# Altium integrated library Atmel SPLD Industry Standard.IntLib: 198 symbols (part 4 of 5)
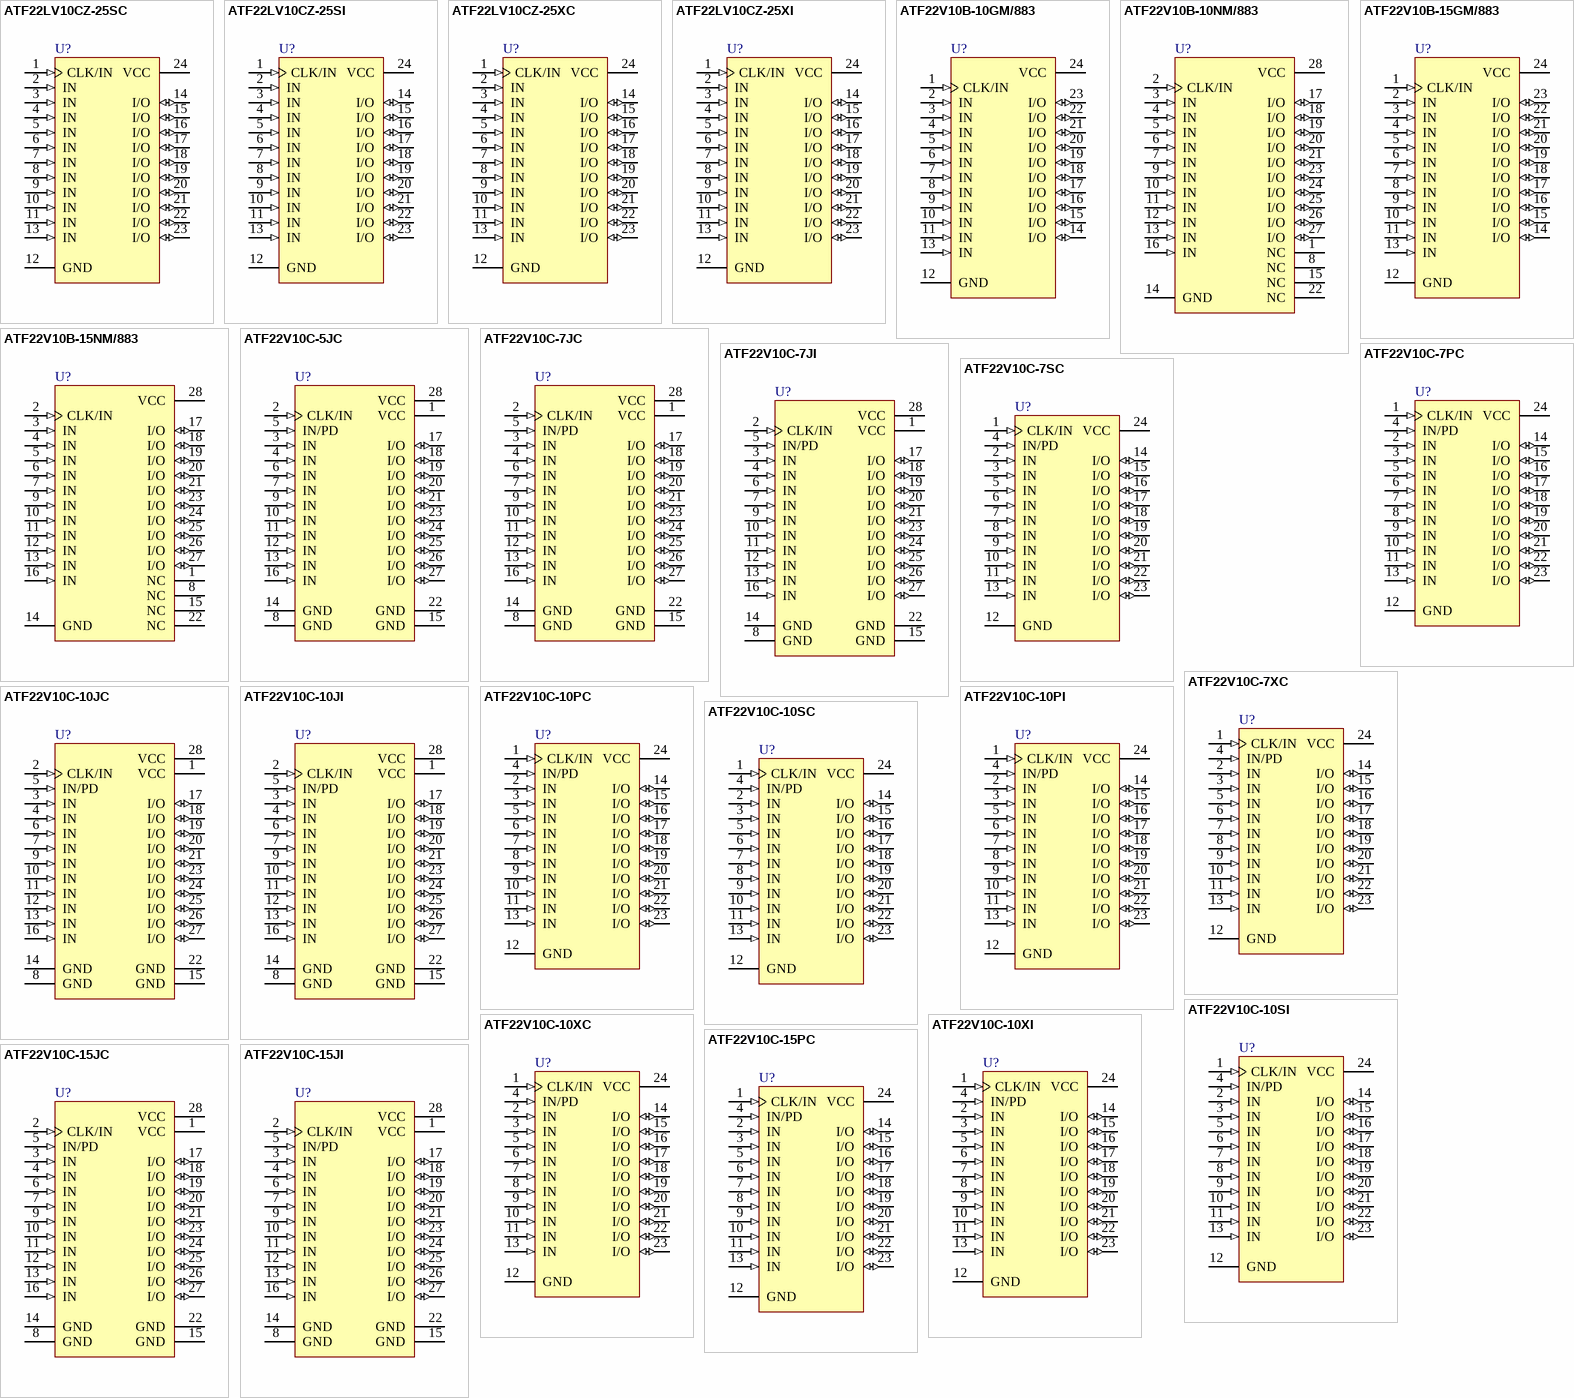
[diagram p10: symbols ATF22LV10CZ-25SC to ATF22V10C-15PC]

## ATF22LV10CZ-25XC
designator U?
ATF22LV10CZ 3.0V to 5.5V Industry Standard SPLD, 24-lead TSSOP, Speed Grade 25, Commercial Grade; DatasheetVersion: Rev. 0779K-04/01; PackageVersion: revA, Apr-2001; PackageReference: 24X; PackageDescription: 24-Pin Thin Small Outline Package 0.65 mm Pitch; ComponentLink1Description: Manufacturer URL; ComponentLink1URL: http://www.atmel.com/; ComponentLink2Description: Datasheet; ComponentLink2URL: http://www.atmel.com/dyn/resources/prod_documents/DOC0778.PDF
footprint 24X_N (TSOP, 24-Leads, Body 7.8x4.4mm, Pitch 0.65mm, IPC Medium Density)
footprint 24X_L (TSOP, 24-Leads, Body 7.8x4.4mm, Pitch 0.65mm, IPC High Density)
footprint 24X_M (TSOP, 24-Leads, Body 7.8x4.4mm, Pitch 0.65mm, IPC Low Density)
pins: 1 CLK/IN (in), 2 IN (in), 3 IN (in), 4 IN (in), 5 IN (in), 6 IN (in), 7 IN (in), 8 IN (in), 9 IN (in), 10 IN (in), 11 IN (in), 12 GND (power), 13 IN (in), 14 I/O (io), 15 I/O (io), 16 I/O (io), 17 I/O (io), 18 I/O (io), 19 I/O (io), 20 I/O (io), 21 I/O (io), 22 I/O (io), 23 I/O (io), 24 VCC (power)

## ATF22LV10CZ-25XI
designator U?
ATF22LV10CZ 3.0V to 5.5V Industry Standard SPLD, 24-lead TSSOP, Speed Grade 25, Industrial Grade; DatasheetVersion: Rev. 0779K-04/01; PackageVersion: revA, Apr-2001; PackageReference: 24X; PackageDescription: 24-Pin Thin Small Outline Package 0.65 mm Pitch; ComponentLink1Description: Manufacturer URL; ComponentLink1URL: http://www.atmel.com/; ComponentLink2Description: Datasheet; ComponentLink2URL: http://www.atmel.com/dyn/resources/prod_documents/DOC0778.PDF
footprint 24X_N (TSOP, 24-Leads, Body 7.8x4.4mm, Pitch 0.65mm, IPC Medium Density)
footprint 24X_L (TSOP, 24-Leads, Body 7.8x4.4mm, Pitch 0.65mm, IPC High Density)
footprint 24X_M (TSOP, 24-Leads, Body 7.8x4.4mm, Pitch 0.65mm, IPC Low Density)
pins: 1 CLK/IN (in), 2 IN (in), 3 IN (in), 4 IN (in), 5 IN (in), 6 IN (in), 7 IN (in), 8 IN (in), 9 IN (in), 10 IN (in), 11 IN (in), 12 GND (power), 13 IN (in), 14 I/O (io), 15 I/O (io), 16 I/O (io), 17 I/O (io), 18 I/O (io), 19 I/O (io), 20 I/O (io), 21 I/O (io), 22 I/O (io), 23 I/O (io), 24 VCC (power)

## ATF22V10B-10GM/883
designator U?
ATF22V10B 5.0V Industry Standard SPLD, 24-lead Non-windowed CerDIP, Speed Grade 10, Military/883C Grade; Note: Pins 1, 8, 15 and 22 are not internally connected.; DatasheetVersion: Rev. 0250L-PLD-06/03; PackageVersion: 1993; PackageReference: 24D3; PackageDescription: DIP, 24-Pin, Skinny Dual In-line Package, 300mil Wide, Pitch 2.54 mm; Code_JEDEC: MS-001-AF; ComponentLink1Description: Manufacturer URL; ComponentLink1URL: http://www.atmel.com/; ComponentLink2Description: Datasheet; ComponentLink2URL: http://www.atmel.com/dyn/resources/prod_documents/doc0250.pdf
footprint 24D3 (DIP, 24-Leads, Row Spacing 7.62mm, Pitch 2.54mm, Body 32x7.56mm)
pins: 1 CLK/IN (in), 2 IN (in), 3 IN (in), 4 IN (in), 5 IN (in), 6 IN (in), 7 IN (in), 8 IN (in), 9 IN (in), 10 IN (in), 11 IN (in), 12 GND (power), 13 IN (in), 14 I/O (io), 15 I/O (io), 16 I/O (io), 17 I/O (io), 18 I/O (io), 19 I/O (io), 20 I/O (io), 21 I/O (io), 22 I/O (io), 23 I/O (io), 24 VCC (power)

## ATF22V10B-10NM/883
designator U?
ATF22V10B 5.0V Industry Standard SPLD, 28-pad Non-windowed LCC, Speed Grade 10, Military/883C Grade; Note: Pins 1, 8, 15 and 22 are not internally connected.; DatasheetVersion: Rev. 0250L-PLD-06/03; PackageVersion: 1/12/1999; PackageReference: 28L; PackageDescription: 28-Pin Ceramic Leadless Chip Carrier 1.27 mm Pitch; ComponentLink1Description: Manufacturer URL; ComponentLink1URL: http://www.atmel.com/; ComponentLink2Description: Datasheet; ComponentLink2URL: http://www.atmel.com/dyn/resources/prod_documents/doc0250.pdf
footprint 28L_N (Leadless Chip Carrier, 28-Leads, Body 11.4x11.4mm, Pitch 1.27mm, IPC Medium Density)
footprint 28L_L (Leadless Chip Carrier, 28-Leads, Body 11.4x11.4mm, Pitch 1.27mm, IPC High Density)
footprint 28L_M (Leadless Chip Carrier, 28-Leads, Body 11.4x11.4mm, Pitch 1.27mm, IPC Low Density)
pins: 1 NC, 2 CLK/IN (in), 3 IN (in), 4 IN (in), 5 IN (in), 6 IN (in), 7 IN (in), 8 NC, 9 IN (in), 10 IN (in), 11 IN (in), 12 IN (in), 13 IN (in), 14 GND (power), 15 NC, 16 IN (in), 17 I/O (io), 18 I/O (io), 19 I/O (io), 20 I/O (io), 21 I/O (io), 22 NC, 23 I/O (io), 24 I/O (io), 25 I/O (io), 26 I/O (io), 27 I/O (io), 28 VCC (power)

## ATF22V10B-15GM/883
designator U?
ATF22V10B 5.0V Industry Standard SPLD, 24-lead Non-windowed CerDIP, Speed Grade 15, Military/883C Grade; Note: Pins 1, 8, 15 and 22 are not internally connected.; DatasheetVersion: Rev. 0250L-PLD-06/03; PackageVersion: 1993; PackageReference: 24D3; PackageDescription: DIP, 24-Pin, Skinny Dual In-line Package, 300mil Wide, Pitch 2.54 mm; Code_JEDEC: MS-001-AF; ComponentLink1Description: Manufacturer URL; ComponentLink1URL: http://www.atmel.com/; ComponentLink2Description: Datasheet; ComponentLink2URL: http://www.atmel.com/dyn/resources/prod_documents/doc0250.pdf
footprint 24D3 (DIP, 24-Leads, Row Spacing 7.62mm, Pitch 2.54mm, Body 32x7.56mm)
pins: 1 CLK/IN (in), 2 IN (in), 3 IN (in), 4 IN (in), 5 IN (in), 6 IN (in), 7 IN (in), 8 IN (in), 9 IN (in), 10 IN (in), 11 IN (in), 12 GND (power), 13 IN (in), 14 I/O (io), 15 I/O (io), 16 I/O (io), 17 I/O (io), 18 I/O (io), 19 I/O (io), 20 I/O (io), 21 I/O (io), 22 I/O (io), 23 I/O (io), 24 VCC (power)

## ATF22V10B-15NM/883
designator U?
ATF22V10B 5.0V Industry Standard SPLD, 28-pad Non-windowed LCC, Speed Grade 15, Military/883C Grade; Note: Pins 1, 8, 15 and 22 are not internally connected.; DatasheetVersion: Rev. 0250L-PLD-06/03; PackageVersion: 1/12/1999; PackageReference: 28L; PackageDescription: 28-Pin Ceramic Leadless Chip Carrier 1.27 mm Pitch; ComponentLink1Description: Manufacturer URL; ComponentLink1URL: http://www.atmel.com/; ComponentLink2Description: Datasheet; ComponentLink2URL: http://www.atmel.com/dyn/resources/prod_documents/doc0250.pdf
footprint 28L_N (Leadless Chip Carrier, 28-Leads, Body 11.4x11.4mm, Pitch 1.27mm, IPC Medium Density)
footprint 28L_L (Leadless Chip Carrier, 28-Leads, Body 11.4x11.4mm, Pitch 1.27mm, IPC High Density)
footprint 28L_M (Leadless Chip Carrier, 28-Leads, Body 11.4x11.4mm, Pitch 1.27mm, IPC Low Density)
pins: 1 NC, 2 CLK/IN (in), 3 IN (in), 4 IN (in), 5 IN (in), 6 IN (in), 7 IN (in), 8 NC, 9 IN (in), 10 IN (in), 11 IN (in), 12 IN (in), 13 IN (in), 14 GND (power), 15 NC, 16 IN (in), 17 I/O (io), 18 I/O (io), 19 I/O (io), 20 I/O (io), 21 I/O (io), 22 NC, 23 I/O (io), 24 I/O (io), 25 I/O (io), 26 I/O (io), 27 I/O (io), 28 VCC (power)

## ATF22V10C-5JC
designator U?
ATF22V10C 5.0V Industry Standard SPLD, 28-lead PLCC, Speed Grade 5, Commercial Grade; DatasheetVersion: Rev. 0735P-PLD-01/02; PackageVersion: 1993; PackageReference: 28J; PackageDescription: 28-Pin Leaded Chip Carrier 1.27 mm Pitch; Code_JEDEC: MS-018-AB; Code_IPC: PLCC-28; ComponentLink1Description: Manufacturer URL; ComponentLink1URL: http://www.atmel.com/; ComponentLink2Description: Datasheet; ComponentLink2URL: http://www.atmel.com/dyn/resources/prod_documents/DOC0735.PDF
footprint 28J_N (Leaded Chip Carrier, 28-Leads, Body 11.5x11.5mm, Pitch 1.27mm, IPC Medium Density)
footprint 28J_L (Leaded Chip Carrier, 28-Leads, Body 11.5x11.5mm, Pitch 1.27mm, IPC High Density)
footprint 28J_M (Leaded Chip Carrier, 28-Leads, Body 11.5x11.5mm, Pitch 1.27mm, IPC Low Density)
pins: 1 VCC (power), 2 CLK/IN (in), 3 IN (in), 4 IN (in), 5 IN/PD (in), 6 IN (in), 7 IN (in), 8 GND (power), 9 IN (in), 10 IN (in), 11 IN (in), 12 IN (in), 13 IN (in), 14 GND (power), 15 GND (power), 16 IN (in), 17 I/O (io), 18 I/O (io), 19 I/O (io), 20 I/O (io), 21 I/O (io), 22 GND (power), 23 I/O (io), 24 I/O (io), 25 I/O (io), 26 I/O (io), 27 I/O (io), 28 VCC (power)

## ATF22V10C-7JC
designator U?
ATF22V10C 5.0V Industry Standard SPLD, 28-lead PLCC, Speed Grade 7.5, Commercial Grade; Note: Pins 1, 8, 15 and 22 can be left unconnected.; Note: For superior performance, connect VCC to pin 1 and GND to 8, 15, and 22.; DatasheetVersion: Rev. 0735P-PLD-01/02; PackageVersion: 1993; PackageReference: 28J; PackageDescription: 28-Pin Leaded Chip Carrier 1.27 mm Pitch; Code_JEDEC: MS-018-AB; Code_IPC: PLCC-28; ComponentLink1Description: Manufacturer URL; ComponentLink1URL: http://www.atmel.com/; ComponentLink2Description: Datasheet; ComponentLink2URL: http://www.atmel.com/dyn/resources/prod_documents/DOC0735.PDF
footprint 28J_N (Leaded Chip Carrier, 28-Leads, Body 11.5x11.5mm, Pitch 1.27mm, IPC Medium Density)
footprint 28J_L (Leaded Chip Carrier, 28-Leads, Body 11.5x11.5mm, Pitch 1.27mm, IPC High Density)
footprint 28J_M (Leaded Chip Carrier, 28-Leads, Body 11.5x11.5mm, Pitch 1.27mm, IPC Low Density)
pins: 1 VCC (power), 2 CLK/IN (in), 3 IN (in), 4 IN (in), 5 IN/PD (in), 6 IN (in), 7 IN (in), 8 GND (power), 9 IN (in), 10 IN (in), 11 IN (in), 12 IN (in), 13 IN (in), 14 GND (power), 15 GND (power), 16 IN (in), 17 I/O (io), 18 I/O (io), 19 I/O (io), 20 I/O (io), 21 I/O (io), 22 GND (power), 23 I/O (io), 24 I/O (io), 25 I/O (io), 26 I/O (io), 27 I/O (io), 28 VCC (power)

## ATF22V10C-7JI
designator U?
ATF22V10C 5.0V Industry Standard SPLD, 28-lead PLCC, Speed Grade 7.5, Industrial Grade; Note: Pins 1, 8, 15 and 22 can be left unconnected.; Note: For superior performance, connect VCC to pin 1 and GND to 8, 15, and 22.; DatasheetVersion: Rev. 0735P-PLD-01/02; PackageVersion: 1993; PackageReference: 28J; PackageDescription: 28-Pin Leaded Chip Carrier 1.27 mm Pitch; Code_JEDEC: MS-018-AB; Code_IPC: PLCC-28; ComponentLink1Description: Manufacturer URL; ComponentLink1URL: http://www.atmel.com/; ComponentLink2Description: Datasheet; ComponentLink2URL: http://www.atmel.com/dyn/resources/prod_documents/DOC0735.PDF
footprint 28J_N (Leaded Chip Carrier, 28-Leads, Body 11.5x11.5mm, Pitch 1.27mm, IPC Medium Density)
footprint 28J_L (Leaded Chip Carrier, 28-Leads, Body 11.5x11.5mm, Pitch 1.27mm, IPC High Density)
footprint 28J_M (Leaded Chip Carrier, 28-Leads, Body 11.5x11.5mm, Pitch 1.27mm, IPC Low Density)
pins: 1 VCC (power), 2 CLK/IN (in), 3 IN (in), 4 IN (in), 5 IN/PD (in), 6 IN (in), 7 IN (in), 8 GND (power), 9 IN (in), 10 IN (in), 11 IN (in), 12 IN (in), 13 IN (in), 14 GND (power), 15 GND (power), 16 IN (in), 17 I/O (io), 18 I/O (io), 19 I/O (io), 20 I/O (io), 21 I/O (io), 22 GND (power), 23 I/O (io), 24 I/O (io), 25 I/O (io), 26 I/O (io), 27 I/O (io), 28 VCC (power)

## ATF22V10C-7PC
designator U?
ATF22V10C 5.0V Industry Standard SPLD, 24-lead PDIP, Speed Grade 7.5, Commercial Grade; DatasheetVersion: Rev. 0735P-PLD-01/02; PackageVersion: 1993; PackageReference: 24P3; PackageDescription: DIP, 24-Pin, Skinny Dual In-line Package, 300mil Wide, Pitch 2.54 mm; Code_JEDEC: MS-001-AF; ComponentLink1Description: Manufacturer URL; ComponentLink1URL: http://www.atmel.com/; ComponentLink2Description: Datasheet; ComponentLink2URL: http://www.atmel.com/dyn/resources/prod_documents/DOC0735.PDF
footprint 24P3 (DIP, 24-Leads, Row Spacing 7.62mm, Pitch 2.54mm, Body 32x6.56mm)
pins: 1 CLK/IN (in), 2 IN (in), 3 IN (in), 4 IN/PD (in), 5 IN (in), 6 IN (in), 7 IN (in), 8 IN (in), 9 IN (in), 10 IN (in), 11 IN (in), 12 GND (power), 13 IN (in), 14 I/O (io), 15 I/O (io), 16 I/O (io), 17 I/O (io), 18 I/O (io), 19 I/O (io), 20 I/O (io), 21 I/O (io), 22 I/O (io), 23 I/O (io), 24 VCC (power)

## ATF22V10C-7SC
designator U?
ATF22V10C 5.0V Industry Standard SPLD, 24-lead SOIC, Speed Grade 7.5, Commercial Grade; DatasheetVersion: Rev. 0735P-PLD-01/02; PackageVersion: 1993; PackageReference: 24S; PackageDescription: 24-Pin Small Outline Integrated Circuit 1.27 mm Pitch; ComponentLink1Description: Manufacturer URL; ComponentLink1URL: http://www.atmel.com/; ComponentLink2Description: Datasheet; ComponentLink2URL: http://www.atmel.com/dyn/resources/prod_documents/DOC0735.PDF
footprint 24S_N (SOIC, 24-Leads, Body 15.4x7.5mm, Pitch 1.27mm, IPC Medium Density)
footprint 24S_L (SOIC, 24-Leads, Body 15.4x7.5mm, Pitch 1.27mm, IPC High Density)
footprint 24S_M (SOIC, 24-Leads, Body 15.4x7.5mm, Pitch 1.27mm, IPC Low Density)
pins: 1 CLK/IN (in), 2 IN (in), 3 IN (in), 4 IN/PD (in), 5 IN (in), 6 IN (in), 7 IN (in), 8 IN (in), 9 IN (in), 10 IN (in), 11 IN (in), 12 GND (power), 13 IN (in), 14 I/O (io), 15 I/O (io), 16 I/O (io), 17 I/O (io), 18 I/O (io), 19 I/O (io), 20 I/O (io), 21 I/O (io), 22 I/O (io), 23 I/O (io), 24 VCC (power)

## ATF22V10C-7XC
designator U?
ATF22V10C 5.0V Industry Standard SPLD, 24-lead TSSOP, Speed Grade 7.5, Commercial Grade; DatasheetVersion: Rev. 0735P-PLD-01/02; PackageVersion: revA, Apr-2001; PackageReference: 24X; PackageDescription: 24-Pin Thin Small Outline Package 0.65 mm Pitch; ComponentLink1Description: Manufacturer URL; ComponentLink1URL: http://www.atmel.com/; ComponentLink2Description: Datasheet; ComponentLink2URL: http://www.atmel.com/dyn/resources/prod_documents/DOC0735.PDF
footprint 24X_N (TSOP, 24-Leads, Body 7.8x4.4mm, Pitch 0.65mm, IPC Medium Density)
footprint 24X_L (TSOP, 24-Leads, Body 7.8x4.4mm, Pitch 0.65mm, IPC High Density)
footprint 24X_M (TSOP, 24-Leads, Body 7.8x4.4mm, Pitch 0.65mm, IPC Low Density)
pins: 1 CLK/IN (in), 2 IN (in), 3 IN (in), 4 IN/PD (in), 5 IN (in), 6 IN (in), 7 IN (in), 8 IN (in), 9 IN (in), 10 IN (in), 11 IN (in), 12 GND (power), 13 IN (in), 14 I/O (io), 15 I/O (io), 16 I/O (io), 17 I/O (io), 18 I/O (io), 19 I/O (io), 20 I/O (io), 21 I/O (io), 22 I/O (io), 23 I/O (io), 24 VCC (power)

## ATF22V10C-10JC
designator U?
ATF22V10C 5.0V Industry Standard SPLD, 28-lead PLCC, Speed Grade 10, Commercial Grade; Note: Pins 1, 8, 15 and 22 can be left unconnected.; Note: For superior performance, connect VCC to pin 1 and GND to 8, 15, and 22.; DatasheetVersion: Rev. 0735P-PLD-01/02; PackageVersion: 1993; PackageReference: 28J; PackageDescription: 28-Pin Leaded Chip Carrier 1.27 mm Pitch; Code_JEDEC: MS-018-AB; Code_IPC: PLCC-28; ComponentLink1Description: Manufacturer URL; ComponentLink1URL: http://www.atmel.com/; ComponentLink2Description: Datasheet; ComponentLink2URL: http://www.atmel.com/dyn/resources/prod_documents/DOC0735.PDF
footprint 28J_N (Leaded Chip Carrier, 28-Leads, Body 11.5x11.5mm, Pitch 1.27mm, IPC Medium Density)
footprint 28J_L (Leaded Chip Carrier, 28-Leads, Body 11.5x11.5mm, Pitch 1.27mm, IPC High Density)
footprint 28J_M (Leaded Chip Carrier, 28-Leads, Body 11.5x11.5mm, Pitch 1.27mm, IPC Low Density)
pins: 1 VCC (power), 2 CLK/IN (in), 3 IN (in), 4 IN (in), 5 IN/PD (in), 6 IN (in), 7 IN (in), 8 GND (power), 9 IN (in), 10 IN (in), 11 IN (in), 12 IN (in), 13 IN (in), 14 GND (power), 15 GND (power), 16 IN (in), 17 I/O (io), 18 I/O (io), 19 I/O (io), 20 I/O (io), 21 I/O (io), 22 GND (power), 23 I/O (io), 24 I/O (io), 25 I/O (io), 26 I/O (io), 27 I/O (io), 28 VCC (power)

## ATF22V10C-10JI
designator U?
ATF22V10C 5.0V Industry Standard SPLD, 28-lead PLCC, Speed Grade 10, Industrial Grade; Note: Pins 1, 8, 15 and 22 can be left unconnected.; Note: For superior performance, connect VCC to pin 1 and GND to 8, 15, and 22.; DatasheetVersion: Rev. 0735P-PLD-01/02; PackageVersion: 1993; PackageReference: 28J; PackageDescription: 28-Pin Leaded Chip Carrier 1.27 mm Pitch; Code_JEDEC: MS-018-AB; Code_IPC: PLCC-28; ComponentLink1Description: Manufacturer URL; ComponentLink1URL: http://www.atmel.com/; ComponentLink2Description: Datasheet; ComponentLink2URL: http://www.atmel.com/dyn/resources/prod_documents/DOC0735.PDF
footprint 28J_N (Leaded Chip Carrier, 28-Leads, Body 11.5x11.5mm, Pitch 1.27mm, IPC Medium Density)
footprint 28J_L (Leaded Chip Carrier, 28-Leads, Body 11.5x11.5mm, Pitch 1.27mm, IPC High Density)
footprint 28J_M (Leaded Chip Carrier, 28-Leads, Body 11.5x11.5mm, Pitch 1.27mm, IPC Low Density)
pins: 1 VCC (power), 2 CLK/IN (in), 3 IN (in), 4 IN (in), 5 IN/PD (in), 6 IN (in), 7 IN (in), 8 GND (power), 9 IN (in), 10 IN (in), 11 IN (in), 12 IN (in), 13 IN (in), 14 GND (power), 15 GND (power), 16 IN (in), 17 I/O (io), 18 I/O (io), 19 I/O (io), 20 I/O (io), 21 I/O (io), 22 GND (power), 23 I/O (io), 24 I/O (io), 25 I/O (io), 26 I/O (io), 27 I/O (io), 28 VCC (power)

## ATF22V10C-10PC
designator U?
ATF22V10C 5.0V Industry Standard SPLD, 24-lead PDIP, Speed Grade 10, Commercial Grade; DatasheetVersion: Rev. 0735P-PLD-01/02; PackageVersion: 1993; PackageReference: 24P3; PackageDescription: DIP, 24-Pin, Skinny Dual In-line Package, 300mil Wide, Pitch 2.54 mm; Code_JEDEC: MS-001-AF; ComponentLink1Description: Manufacturer URL; ComponentLink1URL: http://www.atmel.com/; ComponentLink2Description: Datasheet; ComponentLink2URL: http://www.atmel.com/dyn/resources/prod_documents/DOC0735.PDF
footprint 24P3 (DIP, 24-Leads, Row Spacing 7.62mm, Pitch 2.54mm, Body 32x6.56mm)
pins: 1 CLK/IN (in), 2 IN (in), 3 IN (in), 4 IN/PD (in), 5 IN (in), 6 IN (in), 7 IN (in), 8 IN (in), 9 IN (in), 10 IN (in), 11 IN (in), 12 GND (power), 13 IN (in), 14 I/O (io), 15 I/O (io), 16 I/O (io), 17 I/O (io), 18 I/O (io), 19 I/O (io), 20 I/O (io), 21 I/O (io), 22 I/O (io), 23 I/O (io), 24 VCC (power)

## ATF22V10C-10PI
designator U?
ATF22V10C 5.0V Industry Standard SPLD, 24-lead PDIP, Speed Grade 10, Industrial Grade; DatasheetVersion: Rev. 0735P-PLD-01/02; PackageVersion: 1993; PackageReference: 24P3; PackageDescription: DIP, 24-Pin, Skinny Dual In-line Package, 300mil Wide, Pitch 2.54 mm; Code_JEDEC: MS-001-AF; ComponentLink1Description: Manufacturer URL; ComponentLink1URL: http://www.atmel.com/; ComponentLink2Description: Datasheet; ComponentLink2URL: http://www.atmel.com/dyn/resources/prod_documents/DOC0735.PDF
footprint 24P3 (DIP, 24-Leads, Row Spacing 7.62mm, Pitch 2.54mm, Body 32x6.56mm)
pins: 1 CLK/IN (in), 2 IN (in), 3 IN (in), 4 IN/PD (in), 5 IN (in), 6 IN (in), 7 IN (in), 8 IN (in), 9 IN (in), 10 IN (in), 11 IN (in), 12 GND (power), 13 IN (in), 14 I/O (io), 15 I/O (io), 16 I/O (io), 17 I/O (io), 18 I/O (io), 19 I/O (io), 20 I/O (io), 21 I/O (io), 22 I/O (io), 23 I/O (io), 24 VCC (power)

## ATF22V10C-10SC
designator U?
ATF22V10C 5.0V Industry Standard SPLD, 24-lead SOIC, Speed Grade 10, Commercial Grade; DatasheetVersion: Rev. 0735P-PLD-01/02; PackageVersion: 1993; PackageReference: 24S; PackageDescription: 24-Pin Small Outline Integrated Circuit 1.27 mm Pitch; ComponentLink1Description: Manufacturer URL; ComponentLink1URL: http://www.atmel.com/; ComponentLink2Description: Datasheet; ComponentLink2URL: http://www.atmel.com/dyn/resources/prod_documents/DOC0735.PDF
footprint 24S_N (SOIC, 24-Leads, Body 15.4x7.5mm, Pitch 1.27mm, IPC Medium Density)
footprint 24S_L (SOIC, 24-Leads, Body 15.4x7.5mm, Pitch 1.27mm, IPC High Density)
footprint 24S_M (SOIC, 24-Leads, Body 15.4x7.5mm, Pitch 1.27mm, IPC Low Density)
pins: 1 CLK/IN (in), 2 IN (in), 3 IN (in), 4 IN/PD (in), 5 IN (in), 6 IN (in), 7 IN (in), 8 IN (in), 9 IN (in), 10 IN (in), 11 IN (in), 12 GND (power), 13 IN (in), 14 I/O (io), 15 I/O (io), 16 I/O (io), 17 I/O (io), 18 I/O (io), 19 I/O (io), 20 I/O (io), 21 I/O (io), 22 I/O (io), 23 I/O (io), 24 VCC (power)

## ATF22V10C-10SI
designator U?
ATF22V10C 5.0V Industry Standard SPLD, 24-lead SOIC, Speed Grade 10, Industrial Grade; DatasheetVersion: Rev. 0735P-PLD-01/02; PackageVersion: 1993; PackageReference: 24S; PackageDescription: 24-Pin Small Outline Integrated Circuit 1.27 mm Pitch; ComponentLink1Description: Manufacturer URL; ComponentLink1URL: http://www.atmel.com/; ComponentLink2Description: Datasheet; ComponentLink2URL: http://www.atmel.com/dyn/resources/prod_documents/DOC0735.PDF
footprint 24S_N (SOIC, 24-Leads, Body 15.4x7.5mm, Pitch 1.27mm, IPC Medium Density)
footprint 24S_L (SOIC, 24-Leads, Body 15.4x7.5mm, Pitch 1.27mm, IPC High Density)
footprint 24S_M (SOIC, 24-Leads, Body 15.4x7.5mm, Pitch 1.27mm, IPC Low Density)
pins: 1 CLK/IN (in), 2 IN (in), 3 IN (in), 4 IN/PD (in), 5 IN (in), 6 IN (in), 7 IN (in), 8 IN (in), 9 IN (in), 10 IN (in), 11 IN (in), 12 GND (power), 13 IN (in), 14 I/O (io), 15 I/O (io), 16 I/O (io), 17 I/O (io), 18 I/O (io), 19 I/O (io), 20 I/O (io), 21 I/O (io), 22 I/O (io), 23 I/O (io), 24 VCC (power)

## ATF22V10C-10XC
designator U?
ATF22V10C 5.0V Industry Standard SPLD, 24-lead TSSOP, Speed Grade 10, Commercial Grade; DatasheetVersion: Rev. 0735P-PLD-01/02; PackageVersion: revA, Apr-2001; PackageReference: 24X; PackageDescription: 24-Pin Thin Small Outline Package 0.65 mm Pitch; ComponentLink1Description: Manufacturer URL; ComponentLink1URL: http://www.atmel.com/; ComponentLink2Description: Datasheet; ComponentLink2URL: http://www.atmel.com/dyn/resources/prod_documents/DOC0735.PDF
footprint 24X_N (TSOP, 24-Leads, Body 7.8x4.4mm, Pitch 0.65mm, IPC Medium Density)
footprint 24X_L (TSOP, 24-Leads, Body 7.8x4.4mm, Pitch 0.65mm, IPC High Density)
footprint 24X_M (TSOP, 24-Leads, Body 7.8x4.4mm, Pitch 0.65mm, IPC Low Density)
pins: 1 CLK/IN (in), 2 IN (in), 3 IN (in), 4 IN/PD (in), 5 IN (in), 6 IN (in), 7 IN (in), 8 IN (in), 9 IN (in), 10 IN (in), 11 IN (in), 12 GND (power), 13 IN (in), 14 I/O (io), 15 I/O (io), 16 I/O (io), 17 I/O (io), 18 I/O (io), 19 I/O (io), 20 I/O (io), 21 I/O (io), 22 I/O (io), 23 I/O (io), 24 VCC (power)

## ATF22V10C-10XI
designator U?
ATF22V10C 5.0V Industry Standard SPLD, 24-lead TSSOP, Speed Grade 10, Industrial Grade; DatasheetVersion: Rev. 0735P-PLD-01/02; PackageVersion: revA, Apr-2001; PackageReference: 24X; PackageDescription: 24-Pin Thin Small Outline Package 0.65 mm Pitch; ComponentLink1Description: Manufacturer URL; ComponentLink1URL: http://www.atmel.com/; ComponentLink2Description: Datasheet; ComponentLink2URL: http://www.atmel.com/dyn/resources/prod_documents/DOC0735.PDF
footprint 24X_N (TSOP, 24-Leads, Body 7.8x4.4mm, Pitch 0.65mm, IPC Medium Density)
footprint 24X_L (TSOP, 24-Leads, Body 7.8x4.4mm, Pitch 0.65mm, IPC High Density)
footprint 24X_M (TSOP, 24-Leads, Body 7.8x4.4mm, Pitch 0.65mm, IPC Low Density)
pins: 1 CLK/IN (in), 2 IN (in), 3 IN (in), 4 IN/PD (in), 5 IN (in), 6 IN (in), 7 IN (in), 8 IN (in), 9 IN (in), 10 IN (in), 11 IN (in), 12 GND (power), 13 IN (in), 14 I/O (io), 15 I/O (io), 16 I/O (io), 17 I/O (io), 18 I/O (io), 19 I/O (io), 20 I/O (io), 21 I/O (io), 22 I/O (io), 23 I/O (io), 24 VCC (power)

## ATF22V10C-15JC
designator U?
ATF22V10C 5.0V Industry Standard SPLD, 28-lead PLCC, Speed Grade 15, Commercial Grade; Note: Pins 1, 8, 15 and 22 can be left unconnected.; Note: For superior performance, connect VCC to pin 1 and GND to 8, 15, and 22.; DatasheetVersion: Rev. 0735P-PLD-01/02; PackageVersion: 1993; PackageReference: 28J; PackageDescription: 28-Pin Leaded Chip Carrier 1.27 mm Pitch; Code_JEDEC: MS-018-AB; Code_IPC: PLCC-28; ComponentLink1Description: Manufacturer URL; ComponentLink1URL: http://www.atmel.com/; ComponentLink2Description: Datasheet; ComponentLink2URL: http://www.atmel.com/dyn/resources/prod_documents/DOC0735.PDF
footprint 28J_N (Leaded Chip Carrier, 28-Leads, Body 11.5x11.5mm, Pitch 1.27mm, IPC Medium Density)
footprint 28J_L (Leaded Chip Carrier, 28-Leads, Body 11.5x11.5mm, Pitch 1.27mm, IPC High Density)
footprint 28J_M (Leaded Chip Carrier, 28-Leads, Body 11.5x11.5mm, Pitch 1.27mm, IPC Low Density)
pins: 1 VCC (power), 2 CLK/IN (in), 3 IN (in), 4 IN (in), 5 IN/PD (in), 6 IN (in), 7 IN (in), 8 GND (power), 9 IN (in), 10 IN (in), 11 IN (in), 12 IN (in), 13 IN (in), 14 GND (power), 15 GND (power), 16 IN (in), 17 I/O (io), 18 I/O (io), 19 I/O (io), 20 I/O (io), 21 I/O (io), 22 GND (power), 23 I/O (io), 24 I/O (io), 25 I/O (io), 26 I/O (io), 27 I/O (io), 28 VCC (power)

## ATF22V10C-15JI
designator U?
ATF22V10C 5.0V Industry Standard SPLD, 28-lead PLCC, Speed Grade 15, Industrial Grade; Note: Pins 1, 8, 15 and 22 can be left unconnected.; Note: For superior performance, connect VCC to pin 1 and GND to 8, 15, and 22.; DatasheetVersion: Rev. 0735P-PLD-01/02; PackageVersion: 1993; PackageReference: 28J; PackageDescription: 28-Pin Leaded Chip Carrier 1.27 mm Pitch; Code_JEDEC: MS-018-AB; Code_IPC: PLCC-28; ComponentLink1Description: Manufacturer URL; ComponentLink1URL: http://www.atmel.com/; ComponentLink2Description: Datasheet; ComponentLink2URL: http://www.atmel.com/dyn/resources/prod_documents/DOC0735.PDF
footprint 28J_N (Leaded Chip Carrier, 28-Leads, Body 11.5x11.5mm, Pitch 1.27mm, IPC Medium Density)
footprint 28J_L (Leaded Chip Carrier, 28-Leads, Body 11.5x11.5mm, Pitch 1.27mm, IPC High Density)
footprint 28J_M (Leaded Chip Carrier, 28-Leads, Body 11.5x11.5mm, Pitch 1.27mm, IPC Low Density)
pins: 1 VCC (power), 2 CLK/IN (in), 3 IN (in), 4 IN (in), 5 IN/PD (in), 6 IN (in), 7 IN (in), 8 GND (power), 9 IN (in), 10 IN (in), 11 IN (in), 12 IN (in), 13 IN (in), 14 GND (power), 15 GND (power), 16 IN (in), 17 I/O (io), 18 I/O (io), 19 I/O (io), 20 I/O (io), 21 I/O (io), 22 GND (power), 23 I/O (io), 24 I/O (io), 25 I/O (io), 26 I/O (io), 27 I/O (io), 28 VCC (power)

## ATF22V10C-15PC
designator U?
ATF22V10C 5.0V Industry Standard SPLD, 24-lead PDIP, Speed Grade 15, Commercial Grade; DatasheetVersion: Rev. 0735P-PLD-01/02; PackageVersion: 1993; PackageReference: 24P3; PackageDescription: DIP, 24-Pin, Skinny Dual In-line Package, 300mil Wide, Pitch 2.54 mm; Code_JEDEC: MS-001-AF; ComponentLink1Description: Manufacturer URL; ComponentLink1URL: http://www.atmel.com/; ComponentLink2Description: Datasheet; ComponentLink2URL: http://www.atmel.com/dyn/resources/prod_documents/DOC0735.PDF
footprint 24P3 (DIP, 24-Leads, Row Spacing 7.62mm, Pitch 2.54mm, Body 32x6.56mm)
pins: 1 CLK/IN (in), 2 IN (in), 3 IN (in), 4 IN/PD (in), 5 IN (in), 6 IN (in), 7 IN (in), 8 IN (in), 9 IN (in), 10 IN (in), 11 IN (in), 12 GND (power), 13 IN (in), 14 I/O (io), 15 I/O (io), 16 I/O (io), 17 I/O (io), 18 I/O (io), 19 I/O (io), 20 I/O (io), 21 I/O (io), 22 I/O (io), 23 I/O (io), 24 VCC (power)

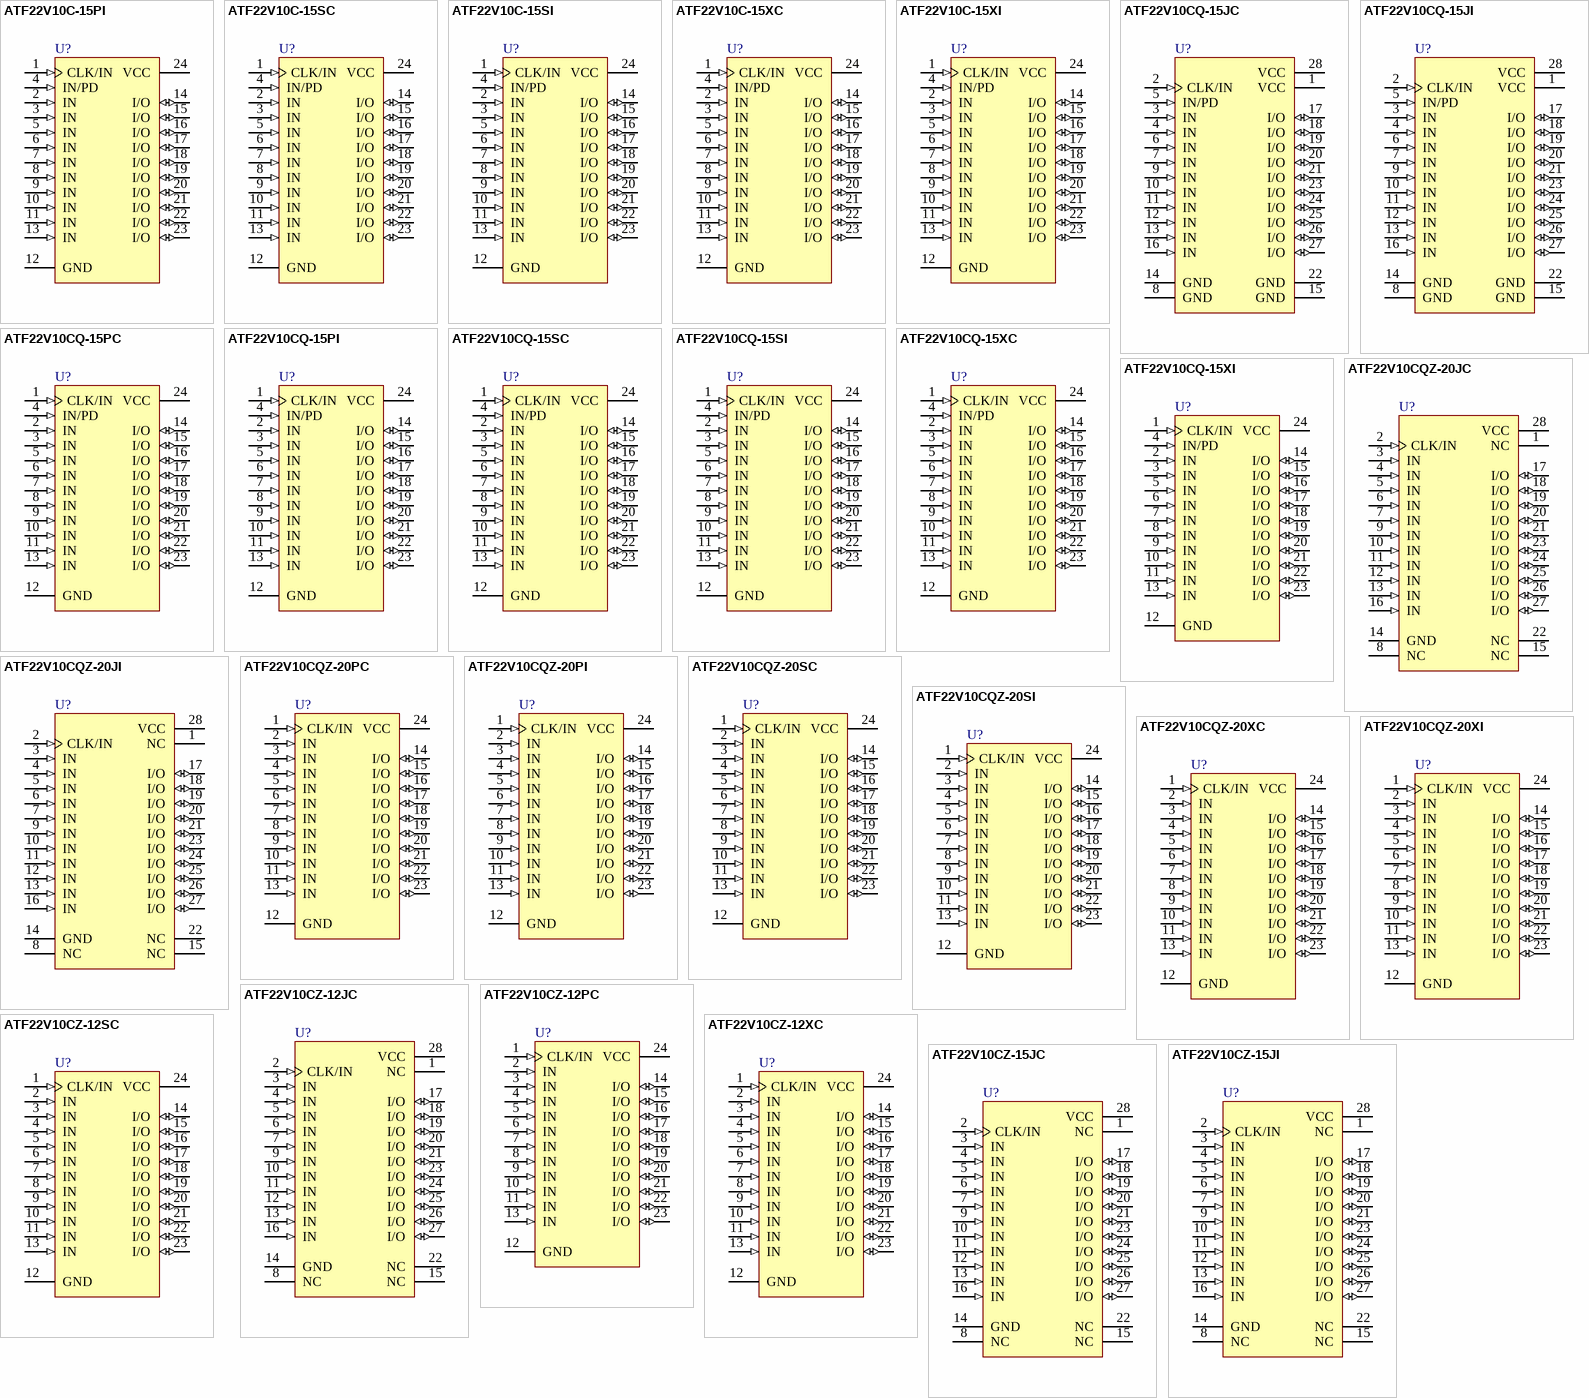
[diagram p6: symbols ATF22V10C-15PI to ATF22V10CZ-15JI]

## ATF22V10C-15PI
designator U?
ATF22V10C 5.0V Industry Standard SPLD, 24-lead PDIP, Speed Grade 15, Industrial Grade; DatasheetVersion: Rev. 0735P-PLD-01/02; PackageVersion: 1993; PackageReference: 24P3; PackageDescription: DIP, 24-Pin, Skinny Dual In-line Package, 300mil Wide, Pitch 2.54 mm; Code_JEDEC: MS-001-AF; ComponentLink1Description: Manufacturer URL; ComponentLink1URL: http://www.atmel.com/; ComponentLink2Description: Datasheet; ComponentLink2URL: http://www.atmel.com/dyn/resources/prod_documents/DOC0735.PDF
footprint 24P3 (DIP, 24-Leads, Row Spacing 7.62mm, Pitch 2.54mm, Body 32x6.56mm)
pins: 1 CLK/IN (in), 2 IN (in), 3 IN (in), 4 IN/PD (in), 5 IN (in), 6 IN (in), 7 IN (in), 8 IN (in), 9 IN (in), 10 IN (in), 11 IN (in), 12 GND (power), 13 IN (in), 14 I/O (io), 15 I/O (io), 16 I/O (io), 17 I/O (io), 18 I/O (io), 19 I/O (io), 20 I/O (io), 21 I/O (io), 22 I/O (io), 23 I/O (io), 24 VCC (power)

## ATF22V10C-15SC
designator U?
ATF22V10C 5.0V Industry Standard SPLD, 24-lead SOIC, Speed Grade 15, Commercial Grade; DatasheetVersion: Rev. 0735P-PLD-01/02; PackageVersion: 1993; PackageReference: 24S; PackageDescription: 24-Pin Small Outline Integrated Circuit 1.27 mm Pitch; ComponentLink1Description: Manufacturer URL; ComponentLink1URL: http://www.atmel.com/; ComponentLink2Description: Datasheet; ComponentLink2URL: http://www.atmel.com/dyn/resources/prod_documents/DOC0735.PDF
footprint 24S_N (SOIC, 24-Leads, Body 15.4x7.5mm, Pitch 1.27mm, IPC Medium Density)
footprint 24S_L (SOIC, 24-Leads, Body 15.4x7.5mm, Pitch 1.27mm, IPC High Density)
footprint 24S_M (SOIC, 24-Leads, Body 15.4x7.5mm, Pitch 1.27mm, IPC Low Density)
pins: 1 CLK/IN (in), 2 IN (in), 3 IN (in), 4 IN/PD (in), 5 IN (in), 6 IN (in), 7 IN (in), 8 IN (in), 9 IN (in), 10 IN (in), 11 IN (in), 12 GND (power), 13 IN (in), 14 I/O (io), 15 I/O (io), 16 I/O (io), 17 I/O (io), 18 I/O (io), 19 I/O (io), 20 I/O (io), 21 I/O (io), 22 I/O (io), 23 I/O (io), 24 VCC (power)

## ATF22V10C-15SI
designator U?
ATF22V10C 5.0V Industry Standard SPLD, 24-lead SOIC, Speed Grade 15, Industrial Grade; DatasheetVersion: Rev. 0735P-PLD-01/02; PackageVersion: 1993; PackageReference: 24S; PackageDescription: 24-Pin Small Outline Integrated Circuit 1.27 mm Pitch; ComponentLink1Description: Manufacturer URL; ComponentLink1URL: http://www.atmel.com/; ComponentLink2Description: Datasheet; ComponentLink2URL: http://www.atmel.com/dyn/resources/prod_documents/DOC0735.PDF
footprint 24S_N (SOIC, 24-Leads, Body 15.4x7.5mm, Pitch 1.27mm, IPC Medium Density)
footprint 24S_L (SOIC, 24-Leads, Body 15.4x7.5mm, Pitch 1.27mm, IPC High Density)
footprint 24S_M (SOIC, 24-Leads, Body 15.4x7.5mm, Pitch 1.27mm, IPC Low Density)
pins: 1 CLK/IN (in), 2 IN (in), 3 IN (in), 4 IN/PD (in), 5 IN (in), 6 IN (in), 7 IN (in), 8 IN (in), 9 IN (in), 10 IN (in), 11 IN (in), 12 GND (power), 13 IN (in), 14 I/O (io), 15 I/O (io), 16 I/O (io), 17 I/O (io), 18 I/O (io), 19 I/O (io), 20 I/O (io), 21 I/O (io), 22 I/O (io), 23 I/O (io), 24 VCC (power)

## ATF22V10C-15XC
designator U?
ATF22V10C 5.0V Industry Standard SPLD, 24-lead TSSOP, Speed Grade 15, Commercial Grade; DatasheetVersion: Rev. 0735P-PLD-01/02; PackageVersion: revA, Apr-2001; PackageReference: 24X; PackageDescription: 24-Pin Thin Small Outline Package 0.65 mm Pitch; ComponentLink1Description: Manufacturer URL; ComponentLink1URL: http://www.atmel.com/; ComponentLink2Description: Datasheet; ComponentLink2URL: http://www.atmel.com/dyn/resources/prod_documents/DOC0735.PDF
footprint 24X_N (TSOP, 24-Leads, Body 7.8x4.4mm, Pitch 0.65mm, IPC Medium Density)
footprint 24X_L (TSOP, 24-Leads, Body 7.8x4.4mm, Pitch 0.65mm, IPC High Density)
footprint 24X_M (TSOP, 24-Leads, Body 7.8x4.4mm, Pitch 0.65mm, IPC Low Density)
pins: 1 CLK/IN (in), 2 IN (in), 3 IN (in), 4 IN/PD (in), 5 IN (in), 6 IN (in), 7 IN (in), 8 IN (in), 9 IN (in), 10 IN (in), 11 IN (in), 12 GND (power), 13 IN (in), 14 I/O (io), 15 I/O (io), 16 I/O (io), 17 I/O (io), 18 I/O (io), 19 I/O (io), 20 I/O (io), 21 I/O (io), 22 I/O (io), 23 I/O (io), 24 VCC (power)

## ATF22V10C-15XI
designator U?
ATF22V10C 5.0V Industry Standard SPLD, 24-lead TSSOP, Speed Grade 15, Industrial Grade; DatasheetVersion: Rev. 0735P-PLD-01/02; PackageVersion: revA, Apr-2001; PackageReference: 24X; PackageDescription: 24-Pin Thin Small Outline Package 0.65 mm Pitch; ComponentLink1Description: Manufacturer URL; ComponentLink1URL: http://www.atmel.com/; ComponentLink2Description: Datasheet; ComponentLink2URL: http://www.atmel.com/dyn/resources/prod_documents/DOC0735.PDF
footprint 24X_N (TSOP, 24-Leads, Body 7.8x4.4mm, Pitch 0.65mm, IPC Medium Density)
footprint 24X_L (TSOP, 24-Leads, Body 7.8x4.4mm, Pitch 0.65mm, IPC High Density)
footprint 24X_M (TSOP, 24-Leads, Body 7.8x4.4mm, Pitch 0.65mm, IPC Low Density)
pins: 1 CLK/IN (in), 2 IN (in), 3 IN (in), 4 IN/PD (in), 5 IN (in), 6 IN (in), 7 IN (in), 8 IN (in), 9 IN (in), 10 IN (in), 11 IN (in), 12 GND (power), 13 IN (in), 14 I/O (io), 15 I/O (io), 16 I/O (io), 17 I/O (io), 18 I/O (io), 19 I/O (io), 20 I/O (io), 21 I/O (io), 22 I/O (io), 23 I/O (io), 24 VCC (power)

## ATF22V10CQ-15JC
designator U?
ATF22V10CQ 5.0V Industry Standard SPLD, 28-lead PLCC, Speed Grade 15, Commercial Grade; Note: Pins 1, 8, 15 and 22 can be left unconnected.; Note: For superior performance, connect VCC to pin 1 and GND to 8, 15, and 22.; DatasheetVersion: Rev. 0735P-PLD-01/02; PackageVersion: 1993; PackageReference: 28J; PackageDescription: 28-Pin Leaded Chip Carrier 1.27 mm Pitch; Code_JEDEC: MS-018-AB; Code_IPC: PLCC-28; ComponentLink1Description: Manufacturer URL; ComponentLink1URL: http://www.atmel.com/; ComponentLink2Description: Datasheet; ComponentLink2URL: http://www.atmel.com/dyn/resources/prod_documents/DOC0735.PDF
footprint 28J_N (Leaded Chip Carrier, 28-Leads, Body 11.5x11.5mm, Pitch 1.27mm, IPC Medium Density)
footprint 28J_L (Leaded Chip Carrier, 28-Leads, Body 11.5x11.5mm, Pitch 1.27mm, IPC High Density)
footprint 28J_M (Leaded Chip Carrier, 28-Leads, Body 11.5x11.5mm, Pitch 1.27mm, IPC Low Density)
pins: 1 VCC (power), 2 CLK/IN (in), 3 IN (in), 4 IN (in), 5 IN/PD (in), 6 IN (in), 7 IN (in), 8 GND (power), 9 IN (in), 10 IN (in), 11 IN (in), 12 IN (in), 13 IN (in), 14 GND (power), 15 GND (power), 16 IN (in), 17 I/O (io), 18 I/O (io), 19 I/O (io), 20 I/O (io), 21 I/O (io), 22 GND (power), 23 I/O (io), 24 I/O (io), 25 I/O (io), 26 I/O (io), 27 I/O (io), 28 VCC (power)

## ATF22V10CQ-15JI
designator U?
ATF22V10CQ 5.0V Industry Standard SPLD, 28-lead PLCC, Speed Grade 15, Industrial Grade; Note: Pins 1, 8, 15 and 22 can be left unconnected.; Note: For superior performance, connect VCC to pin 1 and GND to 8, 15, and 22.; DatasheetVersion: Rev. 0735P-PLD-01/02; PackageVersion: 1993; PackageReference: 28J; PackageDescription: 28-Pin Leaded Chip Carrier 1.27 mm Pitch; Code_JEDEC: MS-018-AB; Code_IPC: PLCC-28; ComponentLink1Description: Manufacturer URL; ComponentLink1URL: http://www.atmel.com/; ComponentLink2Description: Datasheet; ComponentLink2URL: http://www.atmel.com/dyn/resources/prod_documents/DOC0735.PDF
footprint 28J_N (Leaded Chip Carrier, 28-Leads, Body 11.5x11.5mm, Pitch 1.27mm, IPC Medium Density)
footprint 28J_L (Leaded Chip Carrier, 28-Leads, Body 11.5x11.5mm, Pitch 1.27mm, IPC High Density)
footprint 28J_M (Leaded Chip Carrier, 28-Leads, Body 11.5x11.5mm, Pitch 1.27mm, IPC Low Density)
pins: 1 VCC (power), 2 CLK/IN (in), 3 IN (in), 4 IN (in), 5 IN/PD (in), 6 IN (in), 7 IN (in), 8 GND (power), 9 IN (in), 10 IN (in), 11 IN (in), 12 IN (in), 13 IN (in), 14 GND (power), 15 GND (power), 16 IN (in), 17 I/O (io), 18 I/O (io), 19 I/O (io), 20 I/O (io), 21 I/O (io), 22 GND (power), 23 I/O (io), 24 I/O (io), 25 I/O (io), 26 I/O (io), 27 I/O (io), 28 VCC (power)

## ATF22V10CQ-15PC
designator U?
ATF22V10CQ 5.0V Industry Standard SPLD, 24-lead PDIP, Speed Grade 15, Commercial Grade; DatasheetVersion: Rev. 0735P-PLD-01/02; PackageVersion: 1993; PackageReference: 24P3; PackageDescription: DIP, 24-Pin, Skinny Dual In-line Package, 300mil Wide, Pitch 2.54 mm; Code_JEDEC: MS-001-AF; ComponentLink1Description: Manufacturer URL; ComponentLink1URL: http://www.atmel.com/; ComponentLink2Description: Datasheet; ComponentLink2URL: http://www.atmel.com/dyn/resources/prod_documents/DOC0735.PDF
footprint 24P3 (DIP, 24-Leads, Row Spacing 7.62mm, Pitch 2.54mm, Body 32x6.56mm)
pins: 1 CLK/IN (in), 2 IN (in), 3 IN (in), 4 IN/PD (in), 5 IN (in), 6 IN (in), 7 IN (in), 8 IN (in), 9 IN (in), 10 IN (in), 11 IN (in), 12 GND (power), 13 IN (in), 14 I/O (io), 15 I/O (io), 16 I/O (io), 17 I/O (io), 18 I/O (io), 19 I/O (io), 20 I/O (io), 21 I/O (io), 22 I/O (io), 23 I/O (io), 24 VCC (power)

## ATF22V10CQ-15PI
designator U?
ATF22V10CQ 5.0V Industry Standard SPLD, 24-lead PDIP, Speed Grade 15, Industrial Grade; DatasheetVersion: Rev. 0735P-PLD-01/02; PackageVersion: 1993; PackageReference: 24P3; PackageDescription: DIP, 24-Pin, Skinny Dual In-line Package, 300mil Wide, Pitch 2.54 mm; Code_JEDEC: MS-001-AF; ComponentLink1Description: Manufacturer URL; ComponentLink1URL: http://www.atmel.com/; ComponentLink2Description: Datasheet; ComponentLink2URL: http://www.atmel.com/dyn/resources/prod_documents/DOC0735.PDF
footprint 24P3 (DIP, 24-Leads, Row Spacing 7.62mm, Pitch 2.54mm, Body 32x6.56mm)
pins: 1 CLK/IN (in), 2 IN (in), 3 IN (in), 4 IN/PD (in), 5 IN (in), 6 IN (in), 7 IN (in), 8 IN (in), 9 IN (in), 10 IN (in), 11 IN (in), 12 GND (power), 13 IN (in), 14 I/O (io), 15 I/O (io), 16 I/O (io), 17 I/O (io), 18 I/O (io), 19 I/O (io), 20 I/O (io), 21 I/O (io), 22 I/O (io), 23 I/O (io), 24 VCC (power)

## ATF22V10CQ-15SC
designator U?
ATF22V10CQ 5.0V Industry Standard SPLD, 24-lead SOIC, Speed Grade 15, Commercial Grade; DatasheetVersion: Rev. 0735P-PLD-01/02; PackageVersion: 1993; PackageReference: 24S; PackageDescription: 24-Pin Small Outline Integrated Circuit 1.27 mm Pitch; ComponentLink1Description: Manufacturer URL; ComponentLink1URL: http://www.atmel.com/; ComponentLink2Description: Datasheet; ComponentLink2URL: http://www.atmel.com/dyn/resources/prod_documents/DOC0735.PDF
footprint 24S_N (SOIC, 24-Leads, Body 15.4x7.5mm, Pitch 1.27mm, IPC Medium Density)
footprint 24S_L (SOIC, 24-Leads, Body 15.4x7.5mm, Pitch 1.27mm, IPC High Density)
footprint 24S_M (SOIC, 24-Leads, Body 15.4x7.5mm, Pitch 1.27mm, IPC Low Density)
pins: 1 CLK/IN (in), 2 IN (in), 3 IN (in), 4 IN/PD (in), 5 IN (in), 6 IN (in), 7 IN (in), 8 IN (in), 9 IN (in), 10 IN (in), 11 IN (in), 12 GND (power), 13 IN (in), 14 I/O (io), 15 I/O (io), 16 I/O (io), 17 I/O (io), 18 I/O (io), 19 I/O (io), 20 I/O (io), 21 I/O (io), 22 I/O (io), 23 I/O (io), 24 VCC (power)

## ATF22V10CQ-15SI
designator U?
ATF22V10CQ 5.0V Industry Standard SPLD, 24-lead SOIC, Speed Grade 15, Industrial Grade; DatasheetVersion: Rev. 0735P-PLD-01/02; PackageVersion: 1993; PackageReference: 24S; PackageDescription: 24-Pin Small Outline Integrated Circuit 1.27 mm Pitch; ComponentLink1Description: Manufacturer URL; ComponentLink1URL: http://www.atmel.com/; ComponentLink2Description: Datasheet; ComponentLink2URL: http://www.atmel.com/dyn/resources/prod_documents/DOC0735.PDF
footprint 24S_N (SOIC, 24-Leads, Body 15.4x7.5mm, Pitch 1.27mm, IPC Medium Density)
footprint 24S_L (SOIC, 24-Leads, Body 15.4x7.5mm, Pitch 1.27mm, IPC High Density)
footprint 24S_M (SOIC, 24-Leads, Body 15.4x7.5mm, Pitch 1.27mm, IPC Low Density)
pins: 1 CLK/IN (in), 2 IN (in), 3 IN (in), 4 IN/PD (in), 5 IN (in), 6 IN (in), 7 IN (in), 8 IN (in), 9 IN (in), 10 IN (in), 11 IN (in), 12 GND (power), 13 IN (in), 14 I/O (io), 15 I/O (io), 16 I/O (io), 17 I/O (io), 18 I/O (io), 19 I/O (io), 20 I/O (io), 21 I/O (io), 22 I/O (io), 23 I/O (io), 24 VCC (power)

## ATF22V10CQ-15XC
designator U?
ATF22V10CQ 5.0V Industry Standard SPLD, 24-lead TSSOP, Speed Grade 15, Commercial Grade; DatasheetVersion: Rev. 0735P-PLD-01/02; PackageVersion: revA, Apr-2001; PackageReference: 24X; PackageDescription: 24-Pin Thin Small Outline Package 0.65 mm Pitch; ComponentLink1Description: Manufacturer URL; ComponentLink1URL: http://www.atmel.com/; ComponentLink2Description: Datasheet; ComponentLink2URL: http://www.atmel.com/dyn/resources/prod_documents/DOC0735.PDF
footprint 24X_N (TSOP, 24-Leads, Body 7.8x4.4mm, Pitch 0.65mm, IPC Medium Density)
footprint 24X_L (TSOP, 24-Leads, Body 7.8x4.4mm, Pitch 0.65mm, IPC High Density)
footprint 24X_M (TSOP, 24-Leads, Body 7.8x4.4mm, Pitch 0.65mm, IPC Low Density)
pins: 1 CLK/IN (in), 2 IN (in), 3 IN (in), 4 IN/PD (in), 5 IN (in), 6 IN (in), 7 IN (in), 8 IN (in), 9 IN (in), 10 IN (in), 11 IN (in), 12 GND (power), 13 IN (in), 14 I/O (io), 15 I/O (io), 16 I/O (io), 17 I/O (io), 18 I/O (io), 19 I/O (io), 20 I/O (io), 21 I/O (io), 22 I/O (io), 23 I/O (io), 24 VCC (power)

## ATF22V10CQ-15XI
designator U?
ATF22V10CQ 5.0V Industry Standard SPLD, 24-lead TSSOP, Speed Grade 15, Industrial Grade; DatasheetVersion: Rev. 0735P-PLD-01/02; PackageVersion: revA, Apr-2001; PackageReference: 24X; PackageDescription: 24-Pin Thin Small Outline Package 0.65 mm Pitch; ComponentLink1Description: Manufacturer URL; ComponentLink1URL: http://www.atmel.com/; ComponentLink2Description: Datasheet; ComponentLink2URL: http://www.atmel.com/dyn/resources/prod_documents/DOC0735.PDF
footprint 24X_N (TSOP, 24-Leads, Body 7.8x4.4mm, Pitch 0.65mm, IPC Medium Density)
footprint 24X_L (TSOP, 24-Leads, Body 7.8x4.4mm, Pitch 0.65mm, IPC High Density)
footprint 24X_M (TSOP, 24-Leads, Body 7.8x4.4mm, Pitch 0.65mm, IPC Low Density)
pins: 1 CLK/IN (in), 2 IN (in), 3 IN (in), 4 IN/PD (in), 5 IN (in), 6 IN (in), 7 IN (in), 8 IN (in), 9 IN (in), 10 IN (in), 11 IN (in), 12 GND (power), 13 IN (in), 14 I/O (io), 15 I/O (io), 16 I/O (io), 17 I/O (io), 18 I/O (io), 19 I/O (io), 20 I/O (io), 21 I/O (io), 22 I/O (io), 23 I/O (io), 24 VCC (power)

## ATF22V10CQZ-20JC
designator U?
ATF22V10CQZ 5.0V Industry Standard SPLD, 28-lead PLCC, Speed Grade 20, Commercial Grade; Note: Pins 1, 8, 15 and 22 can be left unconnected.; Note: For superior performance, connect VCC to pin 1 and GND to 8, 15, and 22.; DatasheetVersion: Rev. 0778H-03/01; PackageVersion: 1993; PackageReference: 28J; PackageDescription: 28-Pin Leaded Chip Carrier 1.27 mm Pitch; Code_JEDEC: MS-018-AB; Code_IPC: PLCC-28; ComponentLink1Description: Manufacturer URL; ComponentLink1URL: http://www.atmel.com/; ComponentLink2Description: Datasheet; ComponentLink2URL: http://www.atmel.com/dyn/resources/prod_documents/DOC0778.PDF
footprint 28J_N (Leaded Chip Carrier, 28-Leads, Body 11.5x11.5mm, Pitch 1.27mm, IPC Medium Density)
footprint 28J_L (Leaded Chip Carrier, 28-Leads, Body 11.5x11.5mm, Pitch 1.27mm, IPC High Density)
footprint 28J_M (Leaded Chip Carrier, 28-Leads, Body 11.5x11.5mm, Pitch 1.27mm, IPC Low Density)
pins: 1 NC, 2 CLK/IN (in), 3 IN (in), 4 IN (in), 5 IN (in), 6 IN (in), 7 IN (in), 8 NC, 9 IN (in), 10 IN (in), 11 IN (in), 12 IN (in), 13 IN (in), 14 GND (power), 15 NC, 16 IN (in), 17 I/O (io), 18 I/O (io), 19 I/O (io), 20 I/O (io), 21 I/O (io), 22 NC, 23 I/O (io), 24 I/O (io), 25 I/O (io), 26 I/O (io), 27 I/O (io), 28 VCC (power)

## ATF22V10CQZ-20JI
designator U?
ATF22V10CQZ 5.0V Industry Standard SPLD, 28-lead PLCC, Speed Grade 20, Industrial Grade; Note: Pins 1, 8, 15 and 22 can be left unconnected.; Note: For superior performance, connect VCC to pin 1 and GND to 8, 15, and 22.; DatasheetVersion: Rev. 0778H-03/01; PackageVersion: 1993; PackageReference: 28J; PackageDescription: 28-Pin Leaded Chip Carrier 1.27 mm Pitch; Code_JEDEC: MS-018-AB; Code_IPC: PLCC-28; ComponentLink1Description: Manufacturer URL; ComponentLink1URL: http://www.atmel.com/; ComponentLink2Description: Datasheet; ComponentLink2URL: http://www.atmel.com/dyn/resources/prod_documents/DOC0778.PDF
footprint 28J_N (Leaded Chip Carrier, 28-Leads, Body 11.5x11.5mm, Pitch 1.27mm, IPC Medium Density)
footprint 28J_L (Leaded Chip Carrier, 28-Leads, Body 11.5x11.5mm, Pitch 1.27mm, IPC High Density)
footprint 28J_M (Leaded Chip Carrier, 28-Leads, Body 11.5x11.5mm, Pitch 1.27mm, IPC Low Density)
pins: 1 NC, 2 CLK/IN (in), 3 IN (in), 4 IN (in), 5 IN (in), 6 IN (in), 7 IN (in), 8 NC, 9 IN (in), 10 IN (in), 11 IN (in), 12 IN (in), 13 IN (in), 14 GND (power), 15 NC, 16 IN (in), 17 I/O (io), 18 I/O (io), 19 I/O (io), 20 I/O (io), 21 I/O (io), 22 NC, 23 I/O (io), 24 I/O (io), 25 I/O (io), 26 I/O (io), 27 I/O (io), 28 VCC (power)

## ATF22V10CQZ-20PC
designator U?
ATF22V10CQZ 5.0V Industry Standard SPLD, 24-lead PDIP, Speed Grade 20, Commercial Grade; DatasheetVersion: Rev. 0778H-03/01; PackageVersion: 1993; PackageReference: 24P3; PackageDescription: DIP, 24-Pin, Skinny Dual In-line Package, 300mil Wide, Pitch 2.54 mm; Code_JEDEC: MS-001-AF; ComponentLink1Description: Manufacturer URL; ComponentLink1URL: http://www.atmel.com/; ComponentLink2Description: Datasheet; ComponentLink2URL: http://www.atmel.com/dyn/resources/prod_documents/DOC0778.PDF
footprint 24P3 (DIP, 24-Leads, Row Spacing 7.62mm, Pitch 2.54mm, Body 32x6.56mm)
pins: 1 CLK/IN (in), 2 IN (in), 3 IN (in), 4 IN (in), 5 IN (in), 6 IN (in), 7 IN (in), 8 IN (in), 9 IN (in), 10 IN (in), 11 IN (in), 12 GND (power), 13 IN (in), 14 I/O (io), 15 I/O (io), 16 I/O (io), 17 I/O (io), 18 I/O (io), 19 I/O (io), 20 I/O (io), 21 I/O (io), 22 I/O (io), 23 I/O (io), 24 VCC (power)

## ATF22V10CQZ-20PI
designator U?
ATF22V10CQZ 5.0V Industry Standard SPLD, 24-lead PDIP, Speed Grade 20, Industrial Grade; DatasheetVersion: Rev. 0778H-03/01; PackageVersion: 1993; PackageReference: 24P3; PackageDescription: DIP, 24-Pin, Skinny Dual In-line Package, 300mil Wide, Pitch 2.54 mm; Code_JEDEC: MS-001-AF; ComponentLink1Description: Manufacturer URL; ComponentLink1URL: http://www.atmel.com/; ComponentLink2Description: Datasheet; ComponentLink2URL: http://www.atmel.com/dyn/resources/prod_documents/DOC0778.PDF
footprint 24P3 (DIP, 24-Leads, Row Spacing 7.62mm, Pitch 2.54mm, Body 32x6.56mm)
pins: 1 CLK/IN (in), 2 IN (in), 3 IN (in), 4 IN (in), 5 IN (in), 6 IN (in), 7 IN (in), 8 IN (in), 9 IN (in), 10 IN (in), 11 IN (in), 12 GND (power), 13 IN (in), 14 I/O (io), 15 I/O (io), 16 I/O (io), 17 I/O (io), 18 I/O (io), 19 I/O (io), 20 I/O (io), 21 I/O (io), 22 I/O (io), 23 I/O (io), 24 VCC (power)

## ATF22V10CQZ-20SC
designator U?
ATF22V10CQZ 5.0V Industry Standard SPLD, 24-lead SOIC, Speed Grade 20, Commercial Grade; DatasheetVersion: Rev. 0778H-03/01; PackageVersion: 1993; PackageReference: 24S; PackageDescription: 24-Pin Small Outline Integrated Circuit 1.27 mm Pitch; ComponentLink1Description: Manufacturer URL; ComponentLink1URL: http://www.atmel.com/; ComponentLink2Description: Datasheet; ComponentLink2URL: http://www.atmel.com/dyn/resources/prod_documents/DOC0778.PDF
footprint 24S_N (SOIC, 24-Leads, Body 15.4x7.5mm, Pitch 1.27mm, IPC Medium Density)
footprint 24S_L (SOIC, 24-Leads, Body 15.4x7.5mm, Pitch 1.27mm, IPC High Density)
footprint 24S_M (SOIC, 24-Leads, Body 15.4x7.5mm, Pitch 1.27mm, IPC Low Density)
pins: 1 CLK/IN (in), 2 IN (in), 3 IN (in), 4 IN (in), 5 IN (in), 6 IN (in), 7 IN (in), 8 IN (in), 9 IN (in), 10 IN (in), 11 IN (in), 12 GND (power), 13 IN (in), 14 I/O (io), 15 I/O (io), 16 I/O (io), 17 I/O (io), 18 I/O (io), 19 I/O (io), 20 I/O (io), 21 I/O (io), 22 I/O (io), 23 I/O (io), 24 VCC (power)

## ATF22V10CQZ-20SI
designator U?
ATF22V10CQZ 5.0V Industry Standard SPLD, 24-lead SOIC, Speed Grade 20, Industrial Grade; DatasheetVersion: Rev. 0778H-03/01; PackageVersion: 1993; PackageReference: 24S; PackageDescription: 24-Pin Small Outline Integrated Circuit 1.27 mm Pitch; ComponentLink1Description: Manufacturer URL; ComponentLink1URL: http://www.atmel.com/; ComponentLink2Description: Datasheet; ComponentLink2URL: http://www.atmel.com/dyn/resources/prod_documents/DOC0778.PDF
footprint 24S_N (SOIC, 24-Leads, Body 15.4x7.5mm, Pitch 1.27mm, IPC Medium Density)
footprint 24S_L (SOIC, 24-Leads, Body 15.4x7.5mm, Pitch 1.27mm, IPC High Density)
footprint 24S_M (SOIC, 24-Leads, Body 15.4x7.5mm, Pitch 1.27mm, IPC Low Density)
pins: 1 CLK/IN (in), 2 IN (in), 3 IN (in), 4 IN (in), 5 IN (in), 6 IN (in), 7 IN (in), 8 IN (in), 9 IN (in), 10 IN (in), 11 IN (in), 12 GND (power), 13 IN (in), 14 I/O (io), 15 I/O (io), 16 I/O (io), 17 I/O (io), 18 I/O (io), 19 I/O (io), 20 I/O (io), 21 I/O (io), 22 I/O (io), 23 I/O (io), 24 VCC (power)

## ATF22V10CQZ-20XC
designator U?
ATF22V10CQZ 5.0V Industry Standard SPLD, 24-lead TSSOP, Speed Grade 20, Commercial Grade; DatasheetVersion: Rev. 0778H-03/01; PackageVersion: revA, Apr-2001; PackageReference: 24X; PackageDescription: 24-Pin Thin Small Outline Package 0.65 mm Pitch; ComponentLink1Description: Manufacturer URL; ComponentLink1URL: http://www.atmel.com/; ComponentLink2Description: Datasheet; ComponentLink2URL: http://www.atmel.com/dyn/resources/prod_documents/DOC0778.PDF
footprint 24X_N (TSOP, 24-Leads, Body 7.8x4.4mm, Pitch 0.65mm, IPC Medium Density)
footprint 24X_L (TSOP, 24-Leads, Body 7.8x4.4mm, Pitch 0.65mm, IPC High Density)
footprint 24X_M (TSOP, 24-Leads, Body 7.8x4.4mm, Pitch 0.65mm, IPC Low Density)
pins: 1 CLK/IN (in), 2 IN (in), 3 IN (in), 4 IN (in), 5 IN (in), 6 IN (in), 7 IN (in), 8 IN (in), 9 IN (in), 10 IN (in), 11 IN (in), 12 GND (power), 13 IN (in), 14 I/O (io), 15 I/O (io), 16 I/O (io), 17 I/O (io), 18 I/O (io), 19 I/O (io), 20 I/O (io), 21 I/O (io), 22 I/O (io), 23 I/O (io), 24 VCC (power)

## ATF22V10CQZ-20XI
designator U?
ATF22V10CQZ 5.0V Industry Standard SPLD, 24-lead TSSOP, Speed Grade 20, Industrial Grade; DatasheetVersion: Rev. 0778H-03/01; PackageVersion: revA, Apr-2001; PackageReference: 24X; PackageDescription: 24-Pin Thin Small Outline Package 0.65 mm Pitch; ComponentLink1Description: Manufacturer URL; ComponentLink1URL: http://www.atmel.com/; ComponentLink2Description: Datasheet; ComponentLink2URL: http://www.atmel.com/dyn/resources/prod_documents/DOC0778.PDF
footprint 24X_N (TSOP, 24-Leads, Body 7.8x4.4mm, Pitch 0.65mm, IPC Medium Density)
footprint 24X_L (TSOP, 24-Leads, Body 7.8x4.4mm, Pitch 0.65mm, IPC High Density)
footprint 24X_M (TSOP, 24-Leads, Body 7.8x4.4mm, Pitch 0.65mm, IPC Low Density)
pins: 1 CLK/IN (in), 2 IN (in), 3 IN (in), 4 IN (in), 5 IN (in), 6 IN (in), 7 IN (in), 8 IN (in), 9 IN (in), 10 IN (in), 11 IN (in), 12 GND (power), 13 IN (in), 14 I/O (io), 15 I/O (io), 16 I/O (io), 17 I/O (io), 18 I/O (io), 19 I/O (io), 20 I/O (io), 21 I/O (io), 22 I/O (io), 23 I/O (io), 24 VCC (power)

## ATF22V10CZ-12JC
designator U?
ATF22V10CZ 5.0V Industry Standard SPLD, 28-lead PLCC, Speed Grade 12, Commercial Grade; Note: Pins 1, 8, 15 and 22 can be left unconnected.; Note: For superior performance, connect VCC to pin 1 and GND to 8, 15, and 22.; DatasheetVersion: Rev. 0778H-03/01; PackageVersion: 1993; PackageReference: 28J; PackageDescription: 28-Pin Leaded Chip Carrier 1.27 mm Pitch; Code_JEDEC: MS-018-AB; Code_IPC: PLCC-28; ComponentLink1Description: Manufacturer URL; ComponentLink1URL: http://www.atmel.com/; ComponentLink2Description: Datasheet; ComponentLink2URL: http://www.atmel.com/dyn/resources/prod_documents/DOC0778.PDF
footprint 28J_N (Leaded Chip Carrier, 28-Leads, Body 11.5x11.5mm, Pitch 1.27mm, IPC Medium Density)
footprint 28J_L (Leaded Chip Carrier, 28-Leads, Body 11.5x11.5mm, Pitch 1.27mm, IPC High Density)
footprint 28J_M (Leaded Chip Carrier, 28-Leads, Body 11.5x11.5mm, Pitch 1.27mm, IPC Low Density)
pins: 1 NC, 2 CLK/IN (in), 3 IN (in), 4 IN (in), 5 IN (in), 6 IN (in), 7 IN (in), 8 NC, 9 IN (in), 10 IN (in), 11 IN (in), 12 IN (in), 13 IN (in), 14 GND (power), 15 NC, 16 IN (in), 17 I/O (io), 18 I/O (io), 19 I/O (io), 20 I/O (io), 21 I/O (io), 22 NC, 23 I/O (io), 24 I/O (io), 25 I/O (io), 26 I/O (io), 27 I/O (io), 28 VCC (power)

## ATF22V10CZ-12PC
designator U?
ATF22V10CZ 5.0V Industry Standard SPLD, 24-lead PDIP, Speed Grade 12, Commercial Grade; DatasheetVersion: Rev. 0778H-03/01; PackageVersion: 1993; PackageReference: 24P3; PackageDescription: DIP, 24-Pin, Skinny Dual In-line Package, 300mil Wide, Pitch 2.54 mm; Code_JEDEC: MS-001-AF; ComponentLink1Description: Manufacturer URL; ComponentLink1URL: http://www.atmel.com/; ComponentLink2Description: Datasheet; ComponentLink2URL: http://www.atmel.com/dyn/resources/prod_documents/DOC0778.PDF
footprint 24P3 (DIP, 24-Leads, Row Spacing 7.62mm, Pitch 2.54mm, Body 32x6.56mm)
pins: 1 CLK/IN (in), 2 IN (in), 3 IN (in), 4 IN (in), 5 IN (in), 6 IN (in), 7 IN (in), 8 IN (in), 9 IN (in), 10 IN (in), 11 IN (in), 12 GND (power), 13 IN (in), 14 I/O (io), 15 I/O (io), 16 I/O (io), 17 I/O (io), 18 I/O (io), 19 I/O (io), 20 I/O (io), 21 I/O (io), 22 I/O (io), 23 I/O (io), 24 VCC (power)